# EAGLE library part LM22678TJ-5.0 (library CustomSymbols)
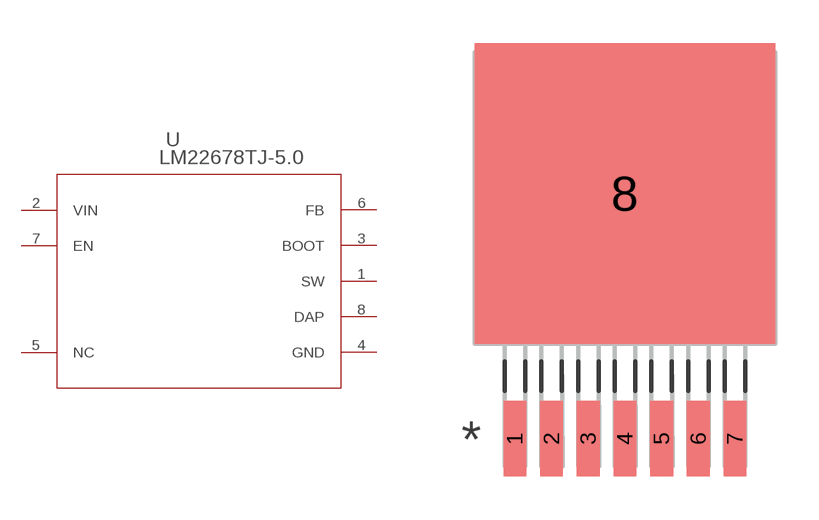
[diagram p1: symbol with the pads of TJ7A; footprint TJ7A]

Designator prefix U

## LM22678TJ-5.0  [TJ7A]
1  SW  pwr
2  VIN  pwr
3  BOOT  pas
4  GND  pwr
5  NC  pas
6  FB  in
7  EN  in
8  DAP  pwr

## Footprint TJ7A (pad centres in mm)
smd 0.787 x 2.616: 1 -3.81,-8.331; 2 -2.54,-8.331; 3 -1.27,-8.331; 4 0,-8.331; 5 1.27,-8.331; 6 2.54,-8.331; 7 3.81,-8.331
smd 10.414 x 10.414: 8 0,0.152